# Altium schematic symbol library RLP1-XXX-XXX.SchLib: 1 symbol
Pins are listed as number, name and electrical type; pins without a type are passive.

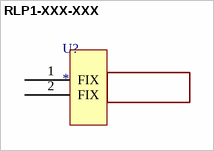
[diagram p0: symbol RLP1-XXX-XXX]

## RLP1-XXX-XXX
designator U?
Right angle light pipe
pins: 1 FIX, 2 FIX